# EAGLE library part SF-RADIO-BOB (library mmoretti)
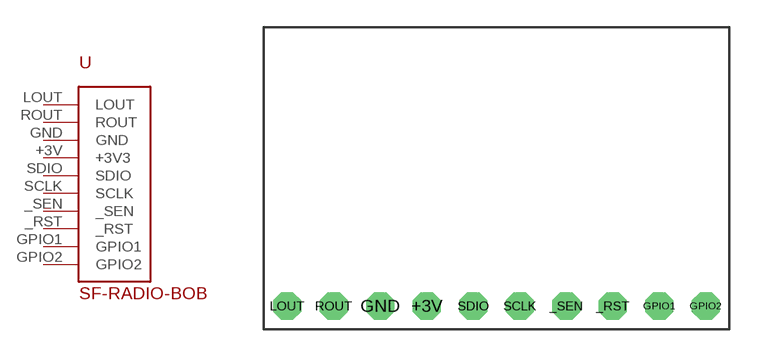
[diagram p10: symbol with the pads of SF-RADIO-BOB; footprint SF-RADIO-BOB]

Designator prefix -

## SF-RADIO-BOB  [SF-RADIO-BOB]
+3V  +3V3  pwr
_RST  _RST  in
_SEN  _SEN  out
GND  GND  pwr
GPIO1  GPIO1
GPIO2  GPIO2
LOUT  LOUT  out
ROUT  ROUT  out
SCLK  SCLK  in
SDIO  SDIO

## Footprint SF-RADIO-BOB (pad centres in mm)
drill 1.016 octagon: +3V -3.81,-7.62; _RST 6.35,-7.62; _SEN 3.81,-7.62; GND -6.35,-7.62; GPIO1 8.89,-7.62; GPIO2 11.43,-7.62; LOUT -11.43,-7.62; ROUT -8.89,-7.62; SCLK 1.27,-7.62; SDIO -1.27,-7.62